# Altium footprint library LM2596S-adj.PcbLib: 1 footprints
Each footprint in its own frame and in the unit in brackets; x right, y up, seen from the top. Pads: shape width x height; smd on the part's side, far side on the other; paste and mask are expansions set on the pad; w line width, h text height; cw(c..) or ccw(c..) is an arc to the next point about the centre after c.
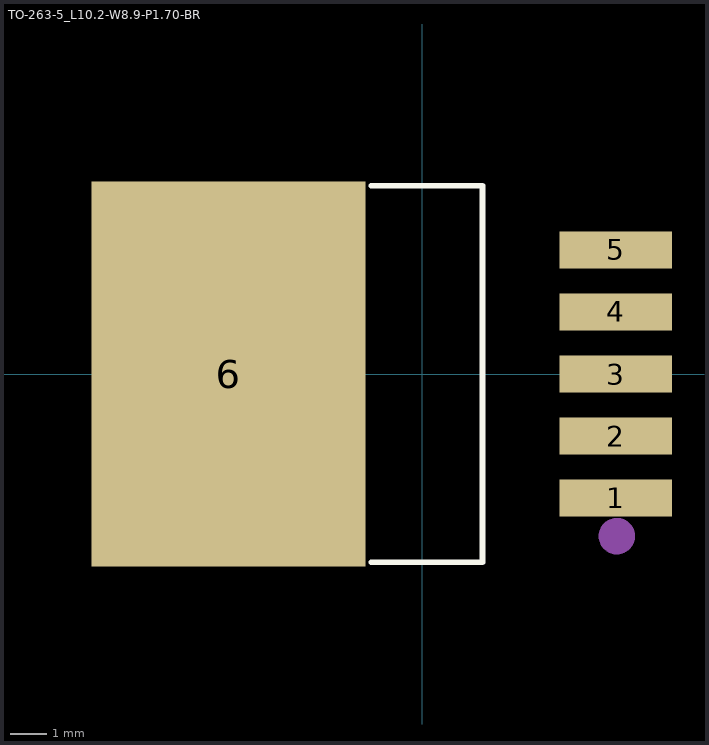
[diagram p0: the footprint, top view; thin cyan lines are the x and y axes]

## TO-263-5_L10.2-W8.9-P1.70-BR [mm]
pads (6):
  rect 3.083x1.02 smd: 1(5.31,-3.4) 2(5.31,-1.7) 3(5.31,0) 4(5.31,1.7) 5(5.31,3.4)
  rect 7.521x10.566 smd: 6(-5.31,0)
Top Overlay:
  lines w0.15: 1.182,-5.156 1.651,-5.156 ; 1.182,5.156 1.651,5.156
  lines w0.152: -1.397,-5.156 1.182,-5.156 ; -1.397,5.156 1.182,5.156 ; 1.651,-5.156 1.651,5.156
Mechanical 15:
  circle w0.5: c5.334,-4.445 r0.25